# Altium footprint library QFPN-28.PcbLib: 1 footprints
Each footprint in its own frame and in the unit in brackets; x right, y up, seen from the top. Pads: shape width x height; smd on the part's side, far side on the other; paste and mask are expansions set on the pad; w line width, h text height; cw(c..) or ccw(c..) is an arc to the next point about the centre after c.
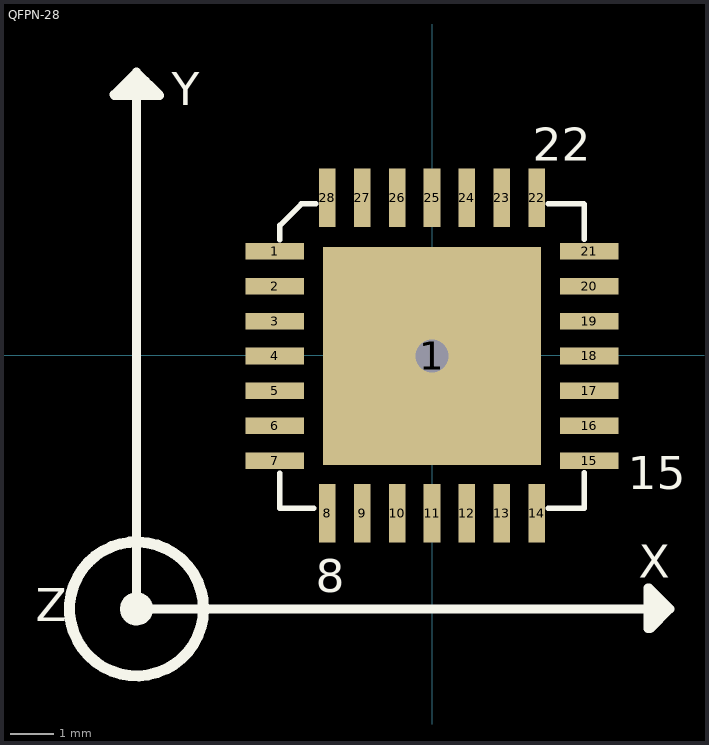
[diagram p0: the footprint, top view; thin cyan lines are the x and y axes]

## QFPN-28 [mil]
height 71
pads (30):
  rect 53x15 smd: 1(-142,94) 2(-142,62.5) 3(-142,31) 4(-142,-0.5) 5(-142,-32) 6(-142,-63.5) 7(-142,-95) 15(142,-95) 16(142,-63.5) 17(142,-32) 18(142,-0.5) 19(142,31) 20(142,62.5) 21(142,94)
  rect 197x197 smd: 1(0,-0.5)
  round 55 hole 30: 1(0,-0.5)
  rect 15x53 smd: 8(-94.5,-142.5) 9(-63,-142.5) 10(-31.5,-142.5) 11(0,-142.5) 12(31.5,-142.5) 13(63,-142.5) 14(94.5,-142.5) 22(94.5,142.5) 23(63,142.5) 24(31.5,142.5) 25(0,142.5) 26(-31.5,142.5) 27(-63,142.5) 28(-94.5,142.5)
TopOverlay:
  circle w10: c-267,-229 r60.54
  circle w10: c-267,-229 r6.08
  circle w10: c-267,-229 r10
  lines w5: -137.5,-106.5 -137.5,-138 -107,-138 ; -137.5,104.5 -137.5,117.5 -118,137 -105,137 ; 105,-138 137.5,-138 137.5,-106 ; 105,137 137,137 137.5,136.5 137.5,105
  lines w8: -281.97,241.03 -259.03,241.03 -259,241 ; -274.3,248.7 -273.63,248.02 -259.02,248.02 ; 195,-238 204,-229 205,-229 195,-219 ; -267,256 -246,235 -287,235 -287.29,235.71 -267,256 ; -267,256 -267,-229 215,-229 ; 215,-229 197,-247 195,-247 195,-210 196,-210 215,-229
  text "Z" at -358,-240 h30
  text "X" at 187,-201 h30
  text "Y" at -235,226 h30
  text "." at -194,94 h30
  text "15" at 177,-121 h30
  text "8" at -105,-214 h30
  text "22" at 91,176 h30